# EAGLE library part TK1_J3A1 (library Carroll's Parts)
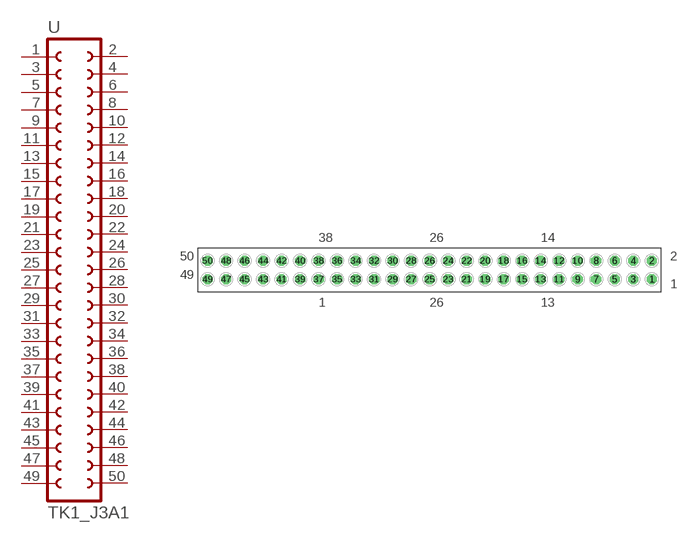
[diagram p0: symbol with the pads of TK1_IO_2X25; footprint TK1_IO_2X25]

Designator prefix -

## TK1_J3A1  [TK1_IO_2X25]
1  1  pas
2  2  pas
3  3  pas
4  4
5  5
6  6
7  7  out
8  8  pas
9  9  pas
10  10  pas
11  11
12  12
13  13
14  14  pas
15  15  pas
16  16  pas
17  17  out
18  18
19  19  pas
20  20
21  21
22  22  pas
23  23
24  24
25  25  pas
26  26  pas
27  27
28  28
29  29  pas
30  30
31  31
32  32  pas
33  33
34  34
35  35  pas
36  36
37  37
38  38  pas
39  39
40  40
41  41  pas
42  42
43  43
44  44  pas
45  45
46  46  out
47  47  pas
48  48
49  49  out
50  50

## Footprint TK1_IO_2X25 (pad centres in mm)
FEMALE HEADER
drill 0.914 octagon: 1 30.48,-1.27; 2 30.48,1.27; 3 27.94,-1.27; 4 27.94,1.27; 5 25.4,-1.27; 6 25.4,1.27; 7 22.86,-1.27; 8 22.86,1.27; 9 20.32,-1.27; 10 20.32,1.27; 11 17.78,-1.27; 12 17.78,1.27; 13 15.24,-1.27; 14 15.24,1.27; 15 12.7,-1.27; 16 12.7,1.27; 17 10.16,-1.27; 18 10.16,1.27; 19 7.62,-1.27; 20 7.62,1.27; 21 5.08,-1.27; 22 5.08,1.27; 23 2.54,-1.27; 24 2.54,1.27; 25 0,-1.27; 26 0,1.27; 27 -2.54,-1.27; 28 -2.54,1.27; 29 -5.08,-1.27; 30 -5.08,1.27; 31 -7.62,-1.27; 32 -7.62,1.27; 33 -10.16,-1.27; 34 -10.16,1.27; 35 -12.7,-1.27; 36 -12.7,1.27; 37 -15.24,-1.27; 38 -15.24,1.27; 39 -17.78,-1.27; 40 -17.78,1.27; 41 -20.32,-1.27; 42 -20.32,1.27; 43 -22.86,-1.27; 44 -22.86,1.27; 45 -25.4,-1.27; 46 -25.4,1.27; 47 -27.94,-1.27; 48 -27.94,1.27; 49 -30.48,-1.27; 50 -30.48,1.27